# Altium schematic symbol library ST3232BTR.SchLib: 1 symbol
Pins are listed as number, name and electrical type; pins without a type are passive.

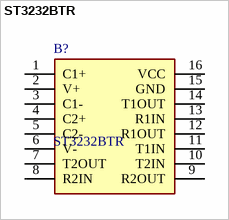
[diagram p0: symbol ST3232BTR]

## ST3232BTR
designator B?
ST3232BTR, Line Transceiver, EIA/TIA-232, RS-232, V.24, V.28 2-TX 2-RX 2-TRX, 3.3 V, 5 V, 16-Pin TSSOP; Manufacturer_Name: STMicroelectronics; Geometry.Height: 1.2mm; Mouser Part Number: 511-ST3232BT; Mouser Price/Stock: https://www.mouser.co.uk/ProductDetail/STMicroelectronics/ST3232BTR?qs=ASaMQXpZW6I31pVVZgI0ww%3D%3D; Manufacturer_Part_Number: ST3232BTR; Datasheet Link: https://www.st.com/resource/en/datasheet/st3232b.pdf
footprint SOP65P640X120-16N
pins: 1 C1+, 2 V+, 3 C1-, 4 C2+, 5 C2-, 6 V-, 7 T2OUT, 8 R2IN, 9 R2OUT, 10 T2IN, 11 T1IN, 12 R1OUT, 13 R1IN, 14 T1OUT, 15 GND, 16 VCC